# Altium integrated library Atmel Microcontroller AVR UC3.IntLib: 227 symbols (part 26 of 32)
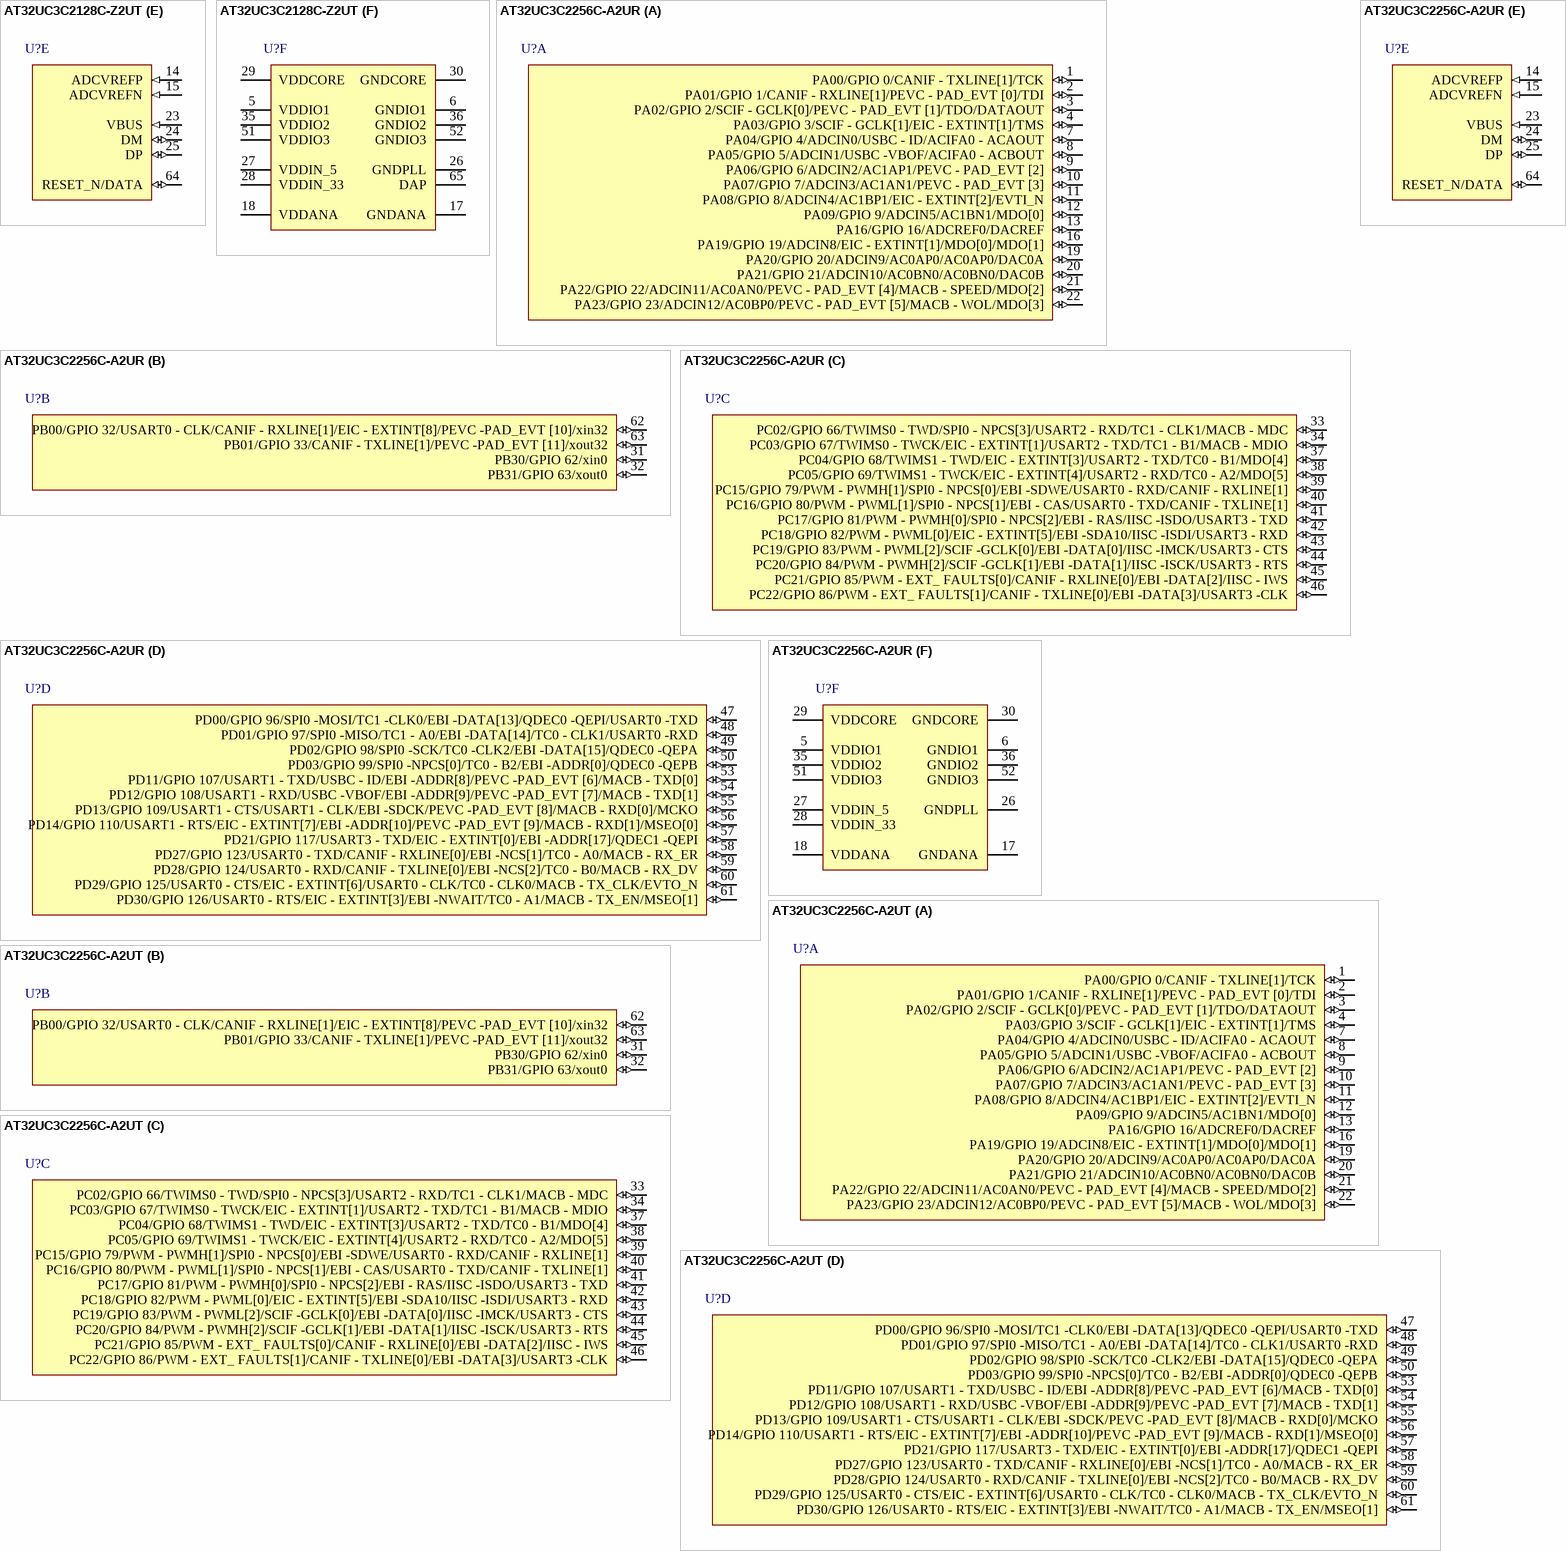
[diagram p256: symbols AT32UC3C2128C-Z2UT to AT32UC3C2256C-A2UT]

## AT32UC3C2256C-A2UR
designator U?
32-bit AVR UC3 C Series Microcontroller, 256KB Flash, 68KB SRAM, 45 GPIO pins, Industrial Grade, 64- Pin TQFP, Reel; DatasheetVersion: revC, Aug-2011; PackageVersion: 2011; PackageReference: TQFP64; PackageDescription: 64-Pin Thin Quad Flat Pack, 10 x 10 x 1.0 mm Body, 0.5 mm Pitch; Code_JEDEC: MS-026; ComponentLink1Description: Manufacturer URL; ComponentLink1URL: http://www.atmel.com/; ComponentLink2Description: AT32UC3C Datasheet; ComponentLink2URL: http://www.atmel.com/dyn/resources/prod_documents/doc32117.pdf; ComponentLink3Description: AT32UC3C Summary; ComponentLink3URL: http://www.atmel.com/dyn/resources/prod_documents/32117s.pdf
footprint TQFP64_N (Thin QFP, 64-Leads, Body 10x10mm, Pitch 0.5mm, IPC Medium Density)
footprint TQFP64_L (Thin QFP, 64-Leads, Body 10x10mm, Pitch 0.5mm, IPC High Density)
footprint TQFP64_M (Thin QFP, 64-Leads, Body 10x10mm, Pitch 0.5mm, IPC Low Density)
part A pins: 1 PA00/GPIO 0/CANIF - TXLINE[1]/TCK (io), 2 PA01/GPIO 1/CANIF - RXLINE[1]/PEVC - PAD_EVT [0]/TDI (io), 3 PA02/GPIO 2/SCIF - GCLK[0]/PEVC - PAD_EVT [1]/TDO/DATAOUT (io), 4 PA03/GPIO 3/SCIF - GCLK[1]/EIC - EXTINT[1]/TMS (io), 7 PA04/GPIO 4/ADCIN0/USBC - ID/ACIFA0 - ACAOUT (io), 8 PA05/GPIO 5/ADCIN1/USBC -VBOF/ACIFA0 - ACBOUT (io), 9 PA06/GPIO 6/ADCIN2/AC1AP1/PEVC - PAD_EVT [2] (io), 10 PA07/GPIO 7/ADCIN3/AC1AN1/PEVC - PAD_EVT [3] (io), 11 PA08/GPIO 8/ADCIN4/AC1BP1/EIC - EXTINT[2]/EVTI_N (io), 12 PA09/GPIO 9/ADCIN5/AC1BN1/MDO[0] (io), 13 PA16/GPIO 16/ADCREF0/DACREF (io), 16 PA19/GPIO 19/ADCIN8/EIC - EXTINT[1]/MDO[0]/MDO[1] (io), 19 PA20/GPIO 20/ADCIN9/AC0AP0/AC0AP0/DAC0A (io), 20 PA21/GPIO 21/ADCIN10/AC0BN0/AC0BN0/DAC0B (io), 21 PA22/GPIO 22/ADCIN11/AC0AN0/PEVC - PAD_EVT [4]/MACB - SPEED/MDO[2] (io), 22 PA23/GPIO 23/ADCIN12/AC0BP0/PEVC - PAD_EVT [5]/MACB - WOL/MDO[3] (io)
part B pins: 31 PB30/GPIO 62/xin0 (io), 32 PB31/GPIO 63/xout0 (io), 62 PB00/GPIO 32/USART0 - CLK/CANIF - RXLINE[1]/EIC - EXTINT[8]/PEVC -PAD_EVT [10]/xin32 (io), 63 PB01/GPIO 33/CANIF - TXLINE[1]/PEVC -PAD_EVT [11]/xout32 (io)
part C pins: 33 PC02/GPIO 66/TWIMS0 - TWD/SPI0 - NPCS[3]/USART2 - RXD/TC1 - CLK1/MACB - MDC (io), 34 PC03/GPIO 67/TWIMS0 - TWCK/EIC - EXTINT[1]/USART2 - TXD/TC1 - B1/MACB - MDIO (io), 37 PC04/GPIO 68/TWIMS1 - TWD/EIC - EXTINT[3]/USART2 - TXD/TC0 - B1/MDO[4] (io), 38 PC05/GPIO 69/TWIMS1 - TWCK/EIC - EXTINT[4]/USART2 - RXD/TC0 - A2/MDO[5] (io), 39 PC15/GPIO 79/PWM - PWMH[1]/SPI0 - NPCS[0]/EBI -SDWE/USART0 - RXD/CANIF - RXLINE[1] (io), 40 PC16/GPIO 80/PWM - PWML[1]/SPI0 - NPCS[1]/EBI - CAS/USART0 - TXD/CANIF - TXLINE[1] (io), 41 PC17/GPIO 81/PWM - PWMH[0]/SPI0 - NPCS[2]/EBI - RAS/IISC -ISDO/USART3 - TXD (io), 42 PC18/GPIO 82/PWM - PWML[0]/EIC - EXTINT[5]/EBI -SDA10/IISC -ISDI/USART3 - RXD (io), 43 PC19/GPIO 83/PWM - PWML[2]/SCIF -GCLK[0]/EBI -DATA[0]/IISC -IMCK/USART3 - CTS (io), 44 PC20/GPIO 84/PWM - PWMH[2]/SCIF -GCLK[1]/EBI -DATA[1]/IISC -ISCK/USART3 - RTS (io), 45 PC21/GPIO 85/PWM - EXT_ FAULTS[0]/CANIF - RXLINE[0]/EBI -DATA[2]/IISC - IWS (io), 46 PC22/GPIO 86/PWM - EXT_ FAULTS[1]/CANIF - TXLINE[0]/EBI -DATA[3]/USART3 -CLK (io)
part D pins: 47 PD00/GPIO 96/SPI0 -MOSI/TC1 -CLK0/EBI -DATA[13]/QDEC0 -QEPI/USART0 -TXD (io), 48 PD01/GPIO 97/SPI0 -MISO/TC1 - A0/EBI -DATA[14]/TC0 - CLK1/USART0 -RXD (io), 49 PD02/GPIO 98/SPI0 -SCK/TC0 -CLK2/EBI -DATA[15]/QDEC0 -QEPA (io), 50 PD03/GPIO 99/SPI0 -NPCS[0]/TC0 - B2/EBI -ADDR[0]/QDEC0 -QEPB (io), 53 PD11/GPIO 107/USART1 - TXD/USBC - ID/EBI -ADDR[8]/PEVC -PAD_EVT [6]/MACB - TXD[0] (io), 54 PD12/GPIO 108/USART1 - RXD/USBC -VBOF/EBI -ADDR[9]/PEVC -PAD_EVT [7]/MACB - TXD[1] (io), 55 PD13/GPIO 109/USART1 - CTS/USART1 - CLK/EBI -SDCK/PEVC -PAD_EVT [8]/MACB - RXD[0]/MCKO (io), 56 PD14/GPIO 110/USART1 - RTS/EIC - EXTINT[7]/EBI -ADDR[10]/PEVC -PAD_EVT [9]/MACB - RXD[1]/MSEO[0] (io), 57 PD21/GPIO 117/USART3 - TXD/EIC - EXTINT[0]/EBI -ADDR[17]/QDEC1 -QEPI (io), 58 PD27/GPIO 123/USART0 - TXD/CANIF - RXLINE[0]/EBI -NCS[1]/TC0 - A0/MACB - RX_ER (io), 59 PD28/GPIO 124/USART0 - RXD/CANIF - TXLINE[0]/EBI -NCS[2]/TC0 - B0/MACB - RX_DV (io), 60 PD29/GPIO 125/USART0 - CTS/EIC - EXTINT[6]/USART0 - CLK/TC0 - CLK0/MACB - TX_CLK/EVTO_N (io), 61 PD30/GPIO 126/USART0 - RTS/EIC - EXTINT[3]/EBI -NWAIT/TC0 - A1/MACB - TX_EN/MSEO[1] (io)
part E pins: 14 ADCVREFP (in), 15 ADCVREFN (in), 23 VBUS (in), 24 DM (io), 25 DP (io), 64 RESET_N/DATA (io)
part F pins: 5 VDDIO1 (power), 6 GNDIO1 (power), 17 GNDANA (power), 18 VDDANA (power), 26 GNDPLL (power), 27 VDDIN_5 (power), 28 VDDIN_33 (power), 29 VDDCORE (power), 30 GNDCORE (power), 35 VDDIO2 (power), 36 GNDIO2 (power), 51 VDDIO3 (power), 52 GNDIO3 (power)

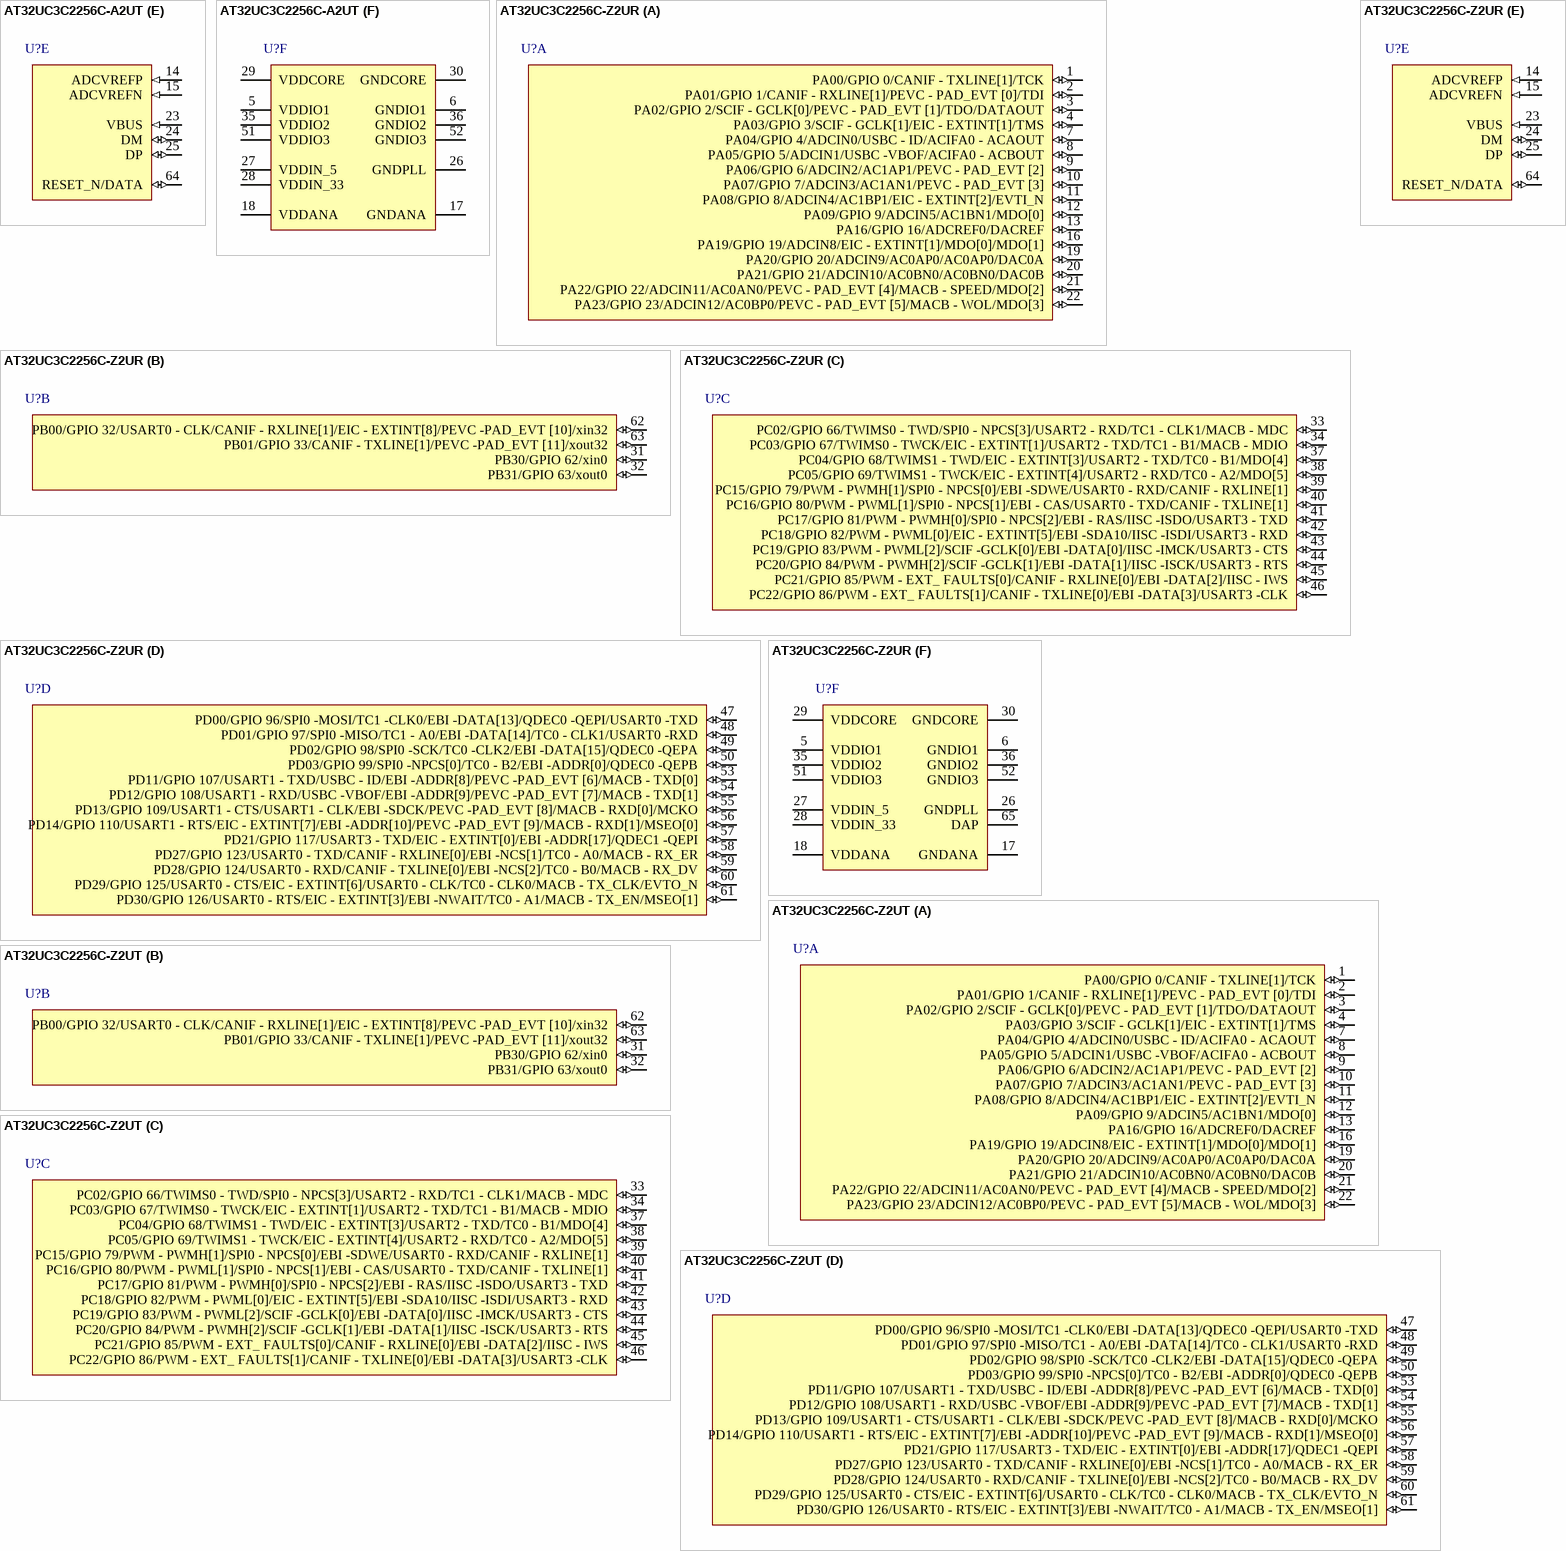
[diagram p90: symbols AT32UC3C2256C-A2UT to AT32UC3C2256C-Z2UT]